# Altium schematic symbol library Battery Holder.SchLib: 16 symbols
Pins are listed as number, name and electrical type; pins without a type are passive.

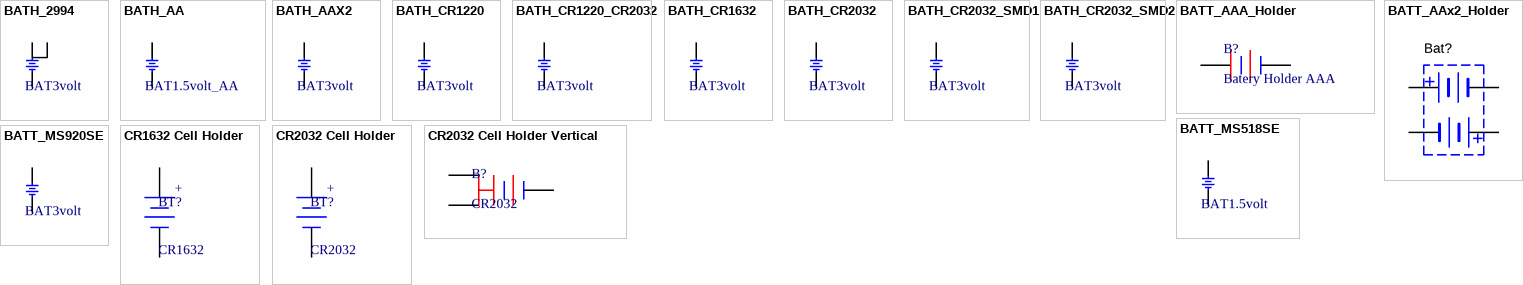
[diagram p0: symbols BATH_2994 to CR2032 Cell Holder Vertical]

## BATH_2994
designator BT?, comment BAT3volt
BATTERY HOLDER, 2994 COIN CELL 4.8MM; MANF_P#: 2994; MANF: KEYSTONE; VALUE: BAT3volt; .: http://www.chila.ir
footprint BTH2994 (BUTTON CELL BATTERY RETAINER 2994)
pins: 1, 2, 2

## BATH_AA
designator BT?, comment BAT1.5volt_AA
BATTERY HOLDER, AA; MANF_P#: Keystone 82; VALUE: BAT1.5volt_AA; .: http://www.chila.ir
footprint BTH_AA (Keystone 82)
footprint BTH_AA_2
pins: 1, 2

## BATH_AAX2
designator BT?, comment BAT3volt
BATTERY HOLDER, AA DUAL; VALUE: BAT3volt; MANF_P#: -; .: http://www.chila.ir
footprint BTH_AAX2 (2-cell AA battery holder)
pins: 1, 2

## BATH_CR1220
designator BT?, comment BAT3volt
BATTERY HOLDER, CR1220; VALUE: BAT3volt; MANF_P#: -; .: http://www.chila.ir
footprint BTH1220 (COIN CELL BATTERY HOLDER 1220 12mm)
pins: 1, 2

## BATH_CR1220_CR2032
designator BT?, comment BAT3volt
BATTERY HOLDER, CR1220/CR2032; VALUE: BAT3volt; MANF_P#: -; .: http://www.chila.ir
footprint BTH1220_2032 (COIN CELL BATTERY HOLDER 1220 12mm CR2032)
pins: 1, 2

## BATH_CR1632
designator BT?, comment BAT3volt
BATTERY HOLDER, CR1632 CR1620 CR1616; MANF_P#: BH600; VALUE: BAT3volt; .: http://www.chila.ir
footprint BTH1632_BH600 (Battery Holder BH600 CR1632 CR1620 CR1616)
pins: 1, 2

## BATH_CR2032
designator BT?, comment BAT3volt
BATTERY HOLDER, CR2032; VALUE: BAT3volt; MANF_P#: -; .: http://www.chila.ir
footprint BTH2032 (CR2032 BATTERY HOLDER)
pins: 1, 2

## BATH_CR2032_SMD1
designator BT?, comment BAT3volt
BATTERY HOLDER, CR2032 SMD; VALUE: BAT3volt; MANF_P#: -; .: http://www.chila.ir
footprint BTH2032_SMD1 (COIN CELL BATTERY HOLDER 2032 20mm KEYSTONE3002)
pins: 1, 2

## BATH_CR2032_SMD2
designator BT?, comment BAT3volt
BATTERY HOLDER, CR2032 SMD; VALUE: BAT3volt; MANF_P#: -; .: http://www.chila.ir
footprint BTH2032_SMD2
pins: 1, 2

## BATT_AAA_Holder
designator B?, comment Batery Holder AAA
Latest Reviewer: Zion Blue; Special thanks to: Hristo Hristov; Publisher: Cynetik Group; Publised: 3-Jul-2014
footprint BAT HOLDER 1xAAA
pins: 1 +, 2 -

## BATT_AAx2_Holder
designator Bat?, comment NiMH-AA x 2  (value not drawn)
Battery holder 2xAA PCB mount; Manufacturer 1: MPD (Memory Protection Devices); Manufacturer Part Number 1: BK-6100-PC4; Ratings: 1300 mAh; Battery Type, Function: Cylindrical, Holder; Style: Holder (Open); Battery Cell Size: AA; Number of Cells: 2; Package / Case: per dwg; Supplier 1: Digi-Key; Supplier Part Number 1: BK-6100-PC4-ND; Mounting Type: PCB, Through Hole; Height Above Board: 0.657" (16.69mm); ComponentLink1URL: http://www.memoryprotectiondevices.com/datasheets/BK-6100-PC4-datasheet.pdf; ComponentLink1Description: http://www.memoryprotectiondevices.com/datasheets/BK-6100-PC4-datasheet.pdf
footprint BATT_HOLDER_2XAA (2-cell AA battery holder)
pins: C1+, C1-, C2+, C2-

## BATT_MS518SE
designator BT?, comment BAT1.5volt
BATTERY HOLDER, MS518SE TS518FE; MANF_P#: MS518SE-FL35E; MANF_P#2: TS518FE-FL35E; MANF: SEIKO; VALUE: BAT1.5volt; .: http://www.chila.ir
footprint BT_TS518FE_FL35E (MS518FE TS518FE FL35E SEIKO BATTERY)
pins: 1, 2

## BATT_MS920SE
designator BT?, comment BAT3volt
BATTERY, Lithium Rechargeable, MS920SE; MANF_P#2: MS920SE-FL27E; MANF: SEIKO; PARAM: Lithium Rechargeable, 11mAh; PARAM2: 3V; VALUE: BAT3volt; MANF_P#: MS920SE; .: http://www.chila.ir
footprint BT_MS920SE (Footprint not found)
pins: 1, 2

## CR1632 Cell Holder
designator BT?, comment CR1632
CR1632 Cell Holder; Revised: Zion Blue; Published: 06-May-2014; LatestRevisionDate: 17-Jul-2002; LatestRevisionNote: Re-released for DXP Platform.; Publisher: Cynetik Group
footprint CR1632 Battery
footprint CR1632 Battery SMD
pins: 1 +, 2 -

## CR2032 Cell Holder
designator BT?, comment CR2032
CR2032 Cell Holder; Revised: Zion Blue; Published: 06-May-2014; LatestRevisionDate: 17-Jul-2002; LatestRevisionNote: Re-released for DXP Platform.; Publisher: Cynetik Group
footprint CR2032 CELL HOLDER
footprint CR2032 CELL HOLDER SMD
footprint PIN3V (Socket PIN 3V)
footprint CR-2032-EDGE
footprint CR-2032H
footprint CR2032-1
pins: 1 +, 2 -

## CR2032 Cell Holder Vertical
designator B?, comment CR2032
CR2032 Cell Holder Vertical; Latest Reviewer: Zion Blue; Special thanks to: Hristo Hristov; Publisher: Cynetik Group; Published: 3-Jul-2014
footprint CR-2032V
pins: 1 +, 2 -, 3 +